# EAGLE library part STROMSTOSSSCHALTER_SS (library pkess_schuetze-relais)
Stromstossschalter
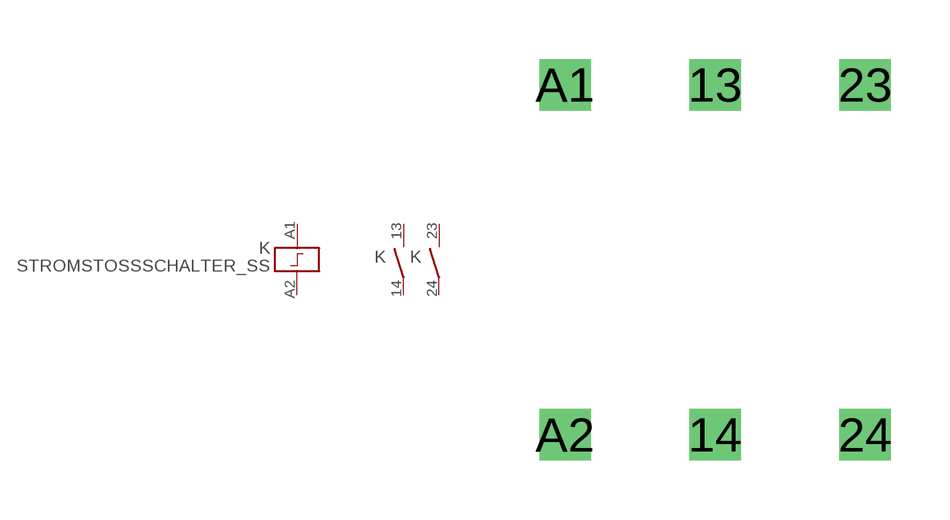
[diagram p8: symbol with the pads of GENERIC_RELAIS_SS; footprint GENERIC_RELAIS_SS]

Designator prefix K; gates G$1=SPULE_STROMSTOSSSCHALTER G$2=KONTAKT_SCHLIESSER G$3=KONTAKT_SCHLIESSER

## STROMSTOSSSCHALTER_SS  [GENERIC_RELAIS_SS]
13  G$2:3  pas
14  G$2:4  pas
23  G$3:3  pas
24  G$3:4  pas
A1  G$1:A1  in
A2  G$1:A2  in

## Footprint GENERIC_RELAIS_SS (pad centres in mm)
drill 0.8 square: 13 -2.54,5.08; 14 -2.54,-3.81; 23 1.27,5.08; 24 1.27,-3.81; A1 -6.35,5.08; A2 -6.35,-3.81